# Altium footprint library 43045-0200.PcbLib: 1 footprints
Each footprint in its own frame and in the unit in brackets; x right, y up, seen from the top. Pads: shape width x height; smd on the part's side, far side on the other; paste and mask are expansions set on the pad; w line width, h text height; cw(c..) or ccw(c..) is an arc to the next point about the centre after c.
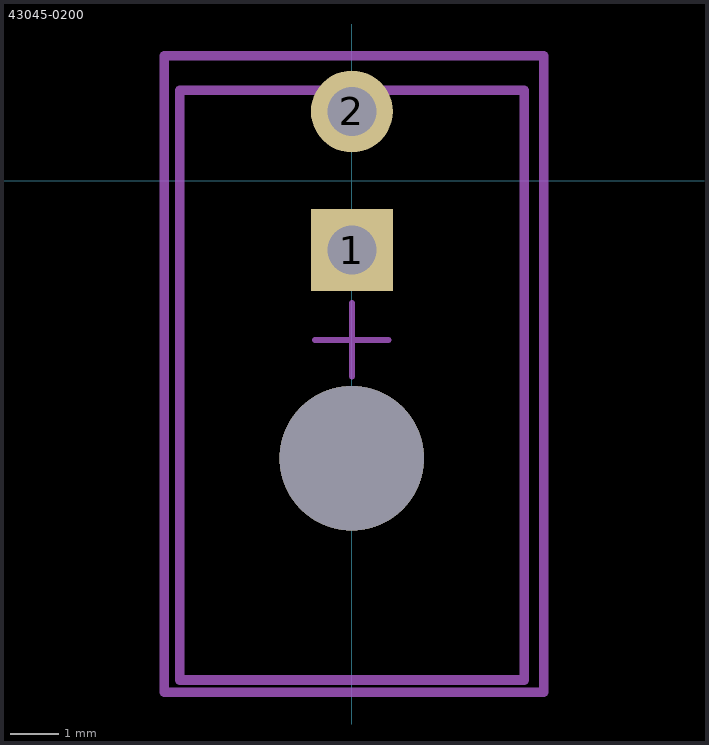
[diagram p0: the footprint, top view; thin cyan lines are the x and y axes]

## 43045-0200 [mm] "Molex Micro-Fit 3.0 1x2"
pads (2):
  rect 1.7x1.7 hole 1.02: 1(0,-1.44)
  round 1.7 hole 1.02: 2(0,1.44)
via 0,-5.76 diameter 3 hole 3
Top Assembly:
  lines w0.2: -3.575,-10.36 -3.575,1.88 3.575,1.88 3.575,-10.36 -3.575,-10.36
Top Courtyard:
  lines w0.127: -0.762,-3.302 0.762,-3.302 ; 0,-4.064 0,-2.54 0,-3.302
  lines w0.2: -3.892,-10.614 -3.892,2.594 3.982,2.594 3.982,-10.614 -3.892,-10.614
3D body "430450200.stp": height 8.83, standoff -3.12, extent -3.575,-10.36 3.575,1.88